# Altium integrated library 434113043826_Altium_WS-TASV_rev20a.IntLib: 82 symbols (part 2 of 2)
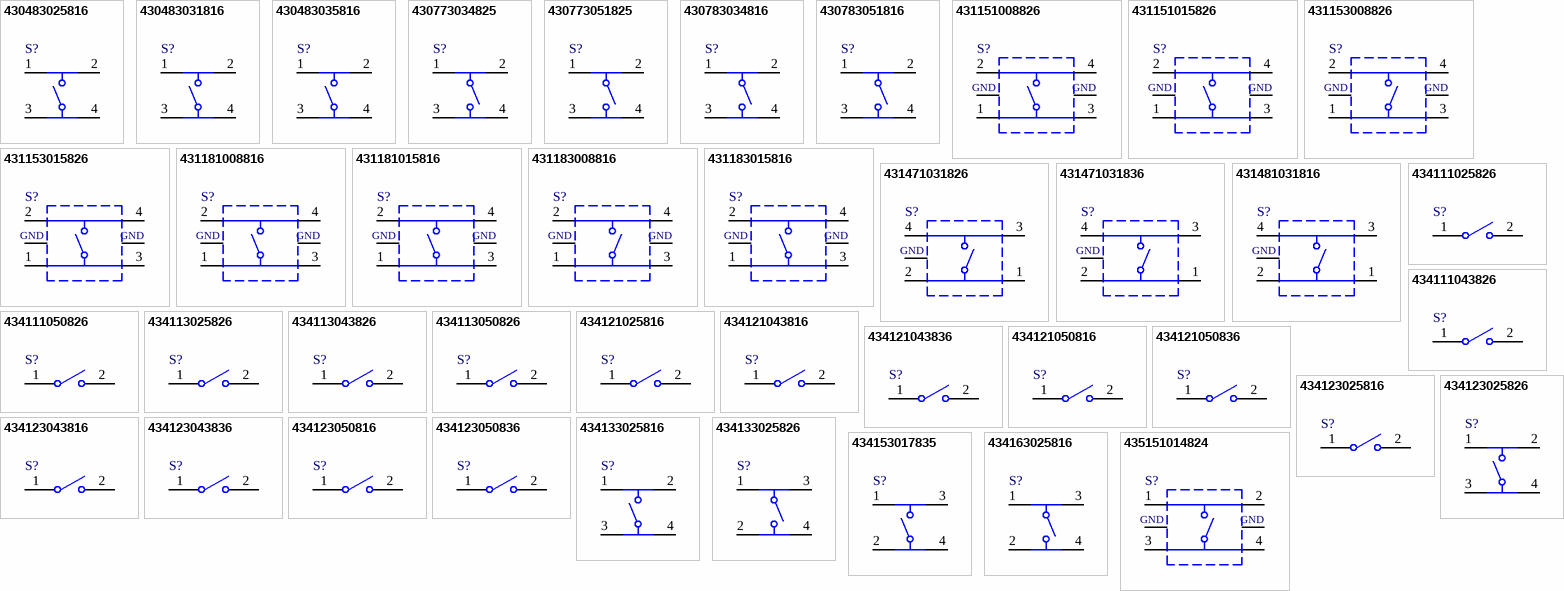
[diagram p3: symbols 430483025816 to 435151014824]

## 434121043816
designator S?
WS-TASV SMT Tact Switch 6x3.5mm, height 4.3mm, 160gf; Part Number: 434121043816; Rated Voltage: 12VDC; Rated Current: 50mA; Washable: No; ComponentLink1Description: Manufacturer; ComponentLink1URL: http://www.we-online.de; ComponentLink2Description: Datasheet; ComponentLink2URL: https://katalog.we-online.com/em/datasheet/434121043816.pdf; Operating Temperature: -40 to +85degC; Published Date: September 2019; Contact Material: Stainless Steel; Height: 4.3mm; Mounting Technology: SMT; Contact Plating: Silver; Operation Force: 160gf; Packaging: Tape and Reel; Terminal Material: Copper Alloy; Publisher: Wurth Elektronik; Terminal Plating: Silver
footprint 434121043816 (SMD Tact Switch, body 6x3.5mm)
pins: 1, 2

## 434121043836
designator S?
WS-TASV SMT Tact Switch 6x3.5mm, height 4.3mm, 360gf; Part Number: 434121043836; Rated Voltage: 12VDC; Rated Current: 50mA; Washable: No; ComponentLink1Description: Manufacturer; ComponentLink1URL: http://www.we-online.de; ComponentLink2Description: Datasheet; ComponentLink2URL: https://katalog.we-online.com/em/datasheet/434121043836.pdf; Operating Temperature: -40 to +85degC; Published Date: September 2019; Contact Material: Stainless Steel; Height: 4.3mm; Mounting Technology: SMT; Contact Plating: Silver; Operation Force: 360gf; Packaging: Tape and Reel; Terminal Material: Copper Alloy; Publisher: Wurth Elektronik; Terminal Plating: Silver
footprint 434121043836 (SMD Tact Switch, body 6x3.5mm)
pins: 1, 2

## 434121050816
designator S?
WS-TASV SMT Tact Switch 6x3.5mm, height 5mm, 160gf; Part Number: 434121050816; Rated Voltage: 12VDC; Rated Current: 50mA; Washable: No; ComponentLink1Description: Manufacturer; ComponentLink1URL: http://www.we-online.de; ComponentLink2Description: Datasheet; ComponentLink2URL: https://katalog.we-online.com/em/datasheet/434121050816.pdf; Operating Temperature: -40 to +85degC; Published Date: September 2019; Contact Material: Stainless Steel; Height: 5mm; Mounting Technology: SMT; Contact Plating: Silver; Operation Force: 160gf; Packaging: Tape and Reel; Terminal Material: Copper Alloy; Publisher: Wurth Elektronik; Terminal Plating: Silver
footprint 434121050816 (SMD Tact Switch, body 6x3.5mm)
pins: 1, 2

## 434121050836
designator S?
WS-TASV SMT Tact Switch 6x3.5mm, height 5mm, 360gf; Part Number: 434121050836; Rated Voltage: 12VDC; Rated Current: 50mA; Washable: No; ComponentLink1Description: Manufacturer; ComponentLink1URL: http://www.we-online.de; ComponentLink2Description: Datasheet; ComponentLink2URL: https://katalog.we-online.com/em/datasheet/434121050836.pdf; Operating Temperature: -40 to +85degC; Published Date: September 2019; Contact Material: Stainless Steel; Height: 5mm; Mounting Technology: SMT; Contact Plating: Silver; Operation Force: 360gf; Packaging: Tape and Reel; Terminal Material: Copper Alloy; Publisher: Wurth Elektronik; Terminal Plating: Silver
footprint 434121050836 (SMD Tact Switch, body 6x3.5mm)
pins: 1, 2

## 434123025816
designator S?
WS-TASV J-Bend SMT Tact Switch 6x3.8mm, height 2.5mm, 160gf; Part Number: 434123025816; Rated Voltage: 12VDC; Rated Current: 50mA; Washable: No; ComponentLink1Description: Manufacturer; ComponentLink1URL: http://www.we-online.de; ComponentLink2Description: Datasheet; ComponentLink2URL: https://katalog.we-online.com/em/datasheet/434123025816.pdf; Operating Temperature: -40 to +85degC; Published Date: September 2019; Contact Material: Stainless Steel; Height: 2.5mm; Mounting Technology: SMT; Contact Plating: Silver; Operation Force: 160gf; Packaging: Tape and Reel; Terminal Material: Copper Alloy; Publisher: Wurth Elektronik; Terminal Plating: Silver
footprint 434123025816 (SMD Tact Switch, body 6x3.8mm)
pins: 1, 2

## 434123025826
designator S?
WS-TASV J-Bend SMT Tact Switch 4.2x3.2mm, height 2.5mm, 260gf; Part Number: 434123025826; Rated Voltage: 16VDC; Rated Current: 50mA; Washable: No; ComponentLink1Description: Manufacturer; ComponentLink1URL: http://www.we-online.de; ComponentLink2Description: Datasheet; ComponentLink2URL: https://katalog.we-online.com/em/datasheet/434123025826.pdf; Operating Temperature: -40 to +85degC; Published Date: September 2019; Contact Material: Stainless Steel; Height: 2.5mm; Mounting Technology: SMT; Contact Plating: Silver; Operation Force: 260gf; Packaging: Tape and Reel; Terminal Material: Copper Alloy; Publisher: Wurth Elektronik; Terminal Plating: Silver
footprint 434123025826 (Tact Switch, SMD, body 4.2x3.2mm)
pins: 1, 2, 3, 4

## 434123043816
designator S?
WS-TASV J-Bend SMT Tact Switch 6x3.5mm, height 4.3mm, 160gf; Part Number: 434123043816; Rated Voltage: 12VDC; Rated Current: 50mA; Washable: No; ComponentLink1Description: Manufacturer; ComponentLink1URL: http://www.we-online.de; ComponentLink2Description: Datasheet; ComponentLink2URL: https://katalog.we-online.com/em/datasheet/434123043816.pdf; Operating Temperature: -40 to +85degC; Published Date: September 2019; Contact Material: Stainless Steel; Height: 4.3mm; Mounting Technology: SMT; Contact Plating: Silver; Operation Force: 160gf; Packaging: Tape and Reel; Terminal Material: Copper Alloy; Publisher: Wurth Elektronik; Terminal Plating: Silver
footprint 434123043816 (SMD Tact Switch, body 6x3.5mm)
pins: 1, 2

## 434123043836
designator S?
WS-TASV J-Bend SMT Tact Switch 6x3.5mm, height 4.3mm, 360gf; Part Number: 434123043836; Rated Voltage: 12VDC; Rated Current: 50mA; Washable: No; ComponentLink1Description: Manufacturer; ComponentLink1URL: http://www.we-online.de; ComponentLink2Description: Datasheet; ComponentLink2URL: https://katalog.we-online.com/em/datasheet/434123043836.pdf; Operating Temperature: -40 to +85degC; Published Date: September 2019; Contact Material: Stainless Steel; Height: 4.3mm; Mounting Technology: SMT; Contact Plating: Silver; Operation Force: 360gf; Packaging: Tape and Reel; Terminal Material: Copper Alloy; Publisher: Wurth Elektronik; Terminal Plating: Silver
footprint 434123043836 (SMD Tact Switch, body 6x3.5mm)
pins: 1, 2

## 434123050816
designator S?
WS-TASV J-Bend SMT Tact Switch 6x3.5mm, height 5mm, 160gf; Part Number: 434123050816; Rated Voltage: 12VDC; Rated Current: 50mA; Washable: No; ComponentLink1Description: Manufacturer; ComponentLink1URL: http://www.we-online.de; ComponentLink2Description: Datasheet; ComponentLink2URL: https://katalog.we-online.com/em/datasheet/434123050816.pdf; Operating Temperature: -40 to +85degC; Published Date: September 2019; Contact Material: Stainless Steel; Height: 5mm; Mounting Technology: SMT; Contact Plating: Silver; Operation Force: 160gf; Packaging: Tape and Reel; Terminal Material: Copper Alloy; Publisher: Wurth Elektronik; Terminal Plating: Silver
footprint 434123050816 (SMD Tact Switch, body 6x3.5mm)
pins: 1, 2

## 434123050836
designator S?
WS-TASV J-Bend SMT Tact Switch 6x3.5mm, height 5mm, 360gf; Part Number: 434123050836; Rated Voltage: 12VDC; Rated Current: 50mA; Washable: No; ComponentLink1Description: Manufacturer; ComponentLink1URL: http://www.we-online.de; ComponentLink2Description: Datasheet; ComponentLink2URL: https://katalog.we-online.com/em/datasheet/434123050836.pdf; Operating Temperature: -40 to +85degC; Published Date: September 2019; Contact Material: Stainless Steel; Height: 5mm; Mounting Technology: SMT; Contact Plating: Silver; Operation Force: 360gf; Packaging: Tape and Reel; Terminal Material: Copper Alloy; Publisher: Wurth Elektronik; Terminal Plating: Silver
footprint 434123050816 (SMD Tact Switch, body 6x3.5mm)
pins: 1, 2

## 434133025816
designator S?
WS-TASV J-Bend SMT Tact Switch 4.2x3.2mm, height 2.5mm, 160gf; Part Number: 434133025816; Rated Voltage: 16VDC; Rated Current: 50mA; Washable: No; ComponentLink1Description: Manufacturer; ComponentLink1URL: http://www.we-online.de; ComponentLink2Description: Datasheet; ComponentLink2URL: https://katalog.we-online.com/em/datasheet/434133025816.pdf; Operating Temperature: -40 to +85degC; Published Date: September 2019; Contact Material: Stainless Steel; Height: 2.5mm; Mounting Technology: SMT; Contact Plating: Silver; Operation Force: 160gf; Packaging: Tape and Reel; Terminal Material: Copper Alloy; Publisher: Wurth Elektronik; Terminal Plating: Silver
footprint 434133025816 (Tact Switch, SMD, body 4.2x3.2mm)
pins: 1, 2, 3, 4

## 434133025826
designator S?
WS-TASV J-Bend SMT Tact Switch 4.7x3.5mm, height 2.5mm, 260gf; Part Number: 434133025826; Rated Voltage: 15VDC; Rated Current: 20mA; Washable: No; ComponentLink1Description: Manufacturer; ComponentLink1URL: http://www.we-online.de; ComponentLink2Description: Datasheet; ComponentLink2URL: https://katalog.we-online.com/em/datasheet/434133025826.pdf; Operating Temperature: -40 to +85degC; Published Date: November 2019; Contact Material: Stainless Steel; Height: 2.5mm; Mounting Technology: SMT; Contact Plating: Silver; Operation Force: 260gf; Packaging: Tape and Reel; Terminal Material: Copper Alloy; Publisher: Wurth Elektronik; Terminal Plating: Silver
footprint 434133025826
pins: 1, 2, 3, 4

## 434153017835
designator S?
WS-TASV J-Bend SMT Tact Switch 3.5x2.9mm, height 1.7mm, 350gf; Part Number: 434153017835; Rated Voltage: 12VDC; Rated Current: 50mA; Washable: No; ComponentLink1Description: Manufacturer; ComponentLink1URL: http://www.we-online.de; ComponentLink2Description: Datasheet; ComponentLink2URL: https://katalog.we-online.com/em/datasheet/434153017835.pdf; Operating Temperature: -40 to +85degC; Published Date: September 2019; Contact Material: Stainless Steel; Height: 1.7mm; Mounting Technology: SMT; Contact Plating: Silver; Operation Force: 350gf; Packaging: Tape and Reel; Terminal Material: Copper Alloy; Publisher: Wurth Elektronik; Terminal Plating: Silver
footprint 434153017835 (Tact Switch, SMD, body 3.5x2.9mm)
pins: 1, 2, 3, 4

## 434163025816
designator S?
WS-TASV J-Bend SMT Tact Switch 4.7x3.5mm, height 2.5mm, 160gf; Part Number: 434163025816; Rated Voltage: 15VDC; Rated Current: 20mA; Washable: No; ComponentLink1Description: Manufacturer; ComponentLink1URL: http://www.we-online.de; ComponentLink2Description: Datasheet; ComponentLink2URL: https://katalog.we-online.com/em/datasheet/434163025816.pdf; Operating Temperature: -40 to +85degC; Published Date: November 2019; Contact Material: Stainless Steel; Height: 2.5mm; Mounting Technology: SMT; Contact Plating: Silver; Operation Force: 160gf; Packaging: Tape and Reel; Terminal Material: Copper Alloy; Publisher: Wurth Elektronik; Terminal Plating: Silver
footprint 434163025816
pins: 1, 2, 3, 4

## 435151014824
designator S?
WS-TASV SMT Tact Switch 3x2.6mm with ground terminal, height 1.4mm, 240gf; Part Number: 435151014824; Rated Voltage: 12VDC; Rated Current: 50mA; Washable: No; ComponentLink1Description: Manufacturer; ComponentLink1URL: http://www.we-online.de; ComponentLink2Description: Datasheet; ComponentLink2URL: https://katalog.we-online.com/em/datasheet/435151014824.pdf; Operating Temperature: -40 to +85degC; Published Date: November 2019; Contact Material: Stainless Steel; Height: 1.4mm; Mounting Technology: SMT; Contact Plating: Silver; Operation Force: 240gf; Packaging: Tape and Reel; Terminal Material: Copper Alloy; Publisher: Wurth Elektronik; Terminal Plating: Silver
footprint 435151014824
pins: 1, 2, 3, 4, 5 GND, 6 GND

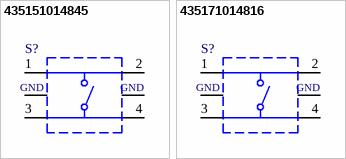
[diagram p2: symbols 435151014845 to 435171014816]

## 435151014845
designator S?
WS-TASV SMT Tact Switch 3x2.6mm with ground terminal, height 1.4mm, 450gf; Part Number: 435151014845; Rated Voltage: 12VDC; Rated Current: 50mA; Washable: No; ComponentLink1Description: Manufacturer; ComponentLink1URL: http://www.we-online.de; ComponentLink2Description: Datasheet; ComponentLink2URL: https://katalog.we-online.com/em/datasheet/435151014845.pdf; Operating Temperature: -40 to +85degC; Published Date: November 2019; Contact Material: Stainless Steel; Height: 1.4mm; Mounting Technology: SMT; Contact Plating: Silver; Operation Force: 450gf; Packaging: Tape and Reel; Terminal Material: Copper Alloy; Publisher: Wurth Elektronik; Terminal Plating: Silver
footprint 435151014845
pins: 1, 2, 3, 4, 5 GND, 6 GND

## 435171014816
designator S?
WS-TASV SMT Tact Switch 3x2.6mm with ground terminal, height 1.4mm, 160gf; Part Number: 435171014816; Rated Voltage: 12VDC; Rated Current: 50mA; Washable: No; ComponentLink1Description: Manufacturer; ComponentLink1URL: http://www.we-online.de; ComponentLink2Description: Datasheet; ComponentLink2URL: https://katalog.we-online.com/em/datasheet/435171014816.pdf; Operating Temperature: -40 to +85degC; Published Date: November 2019; Contact Material: Stainless Steel; Height: 1.4mm; Mounting Technology: SMT; Contact Plating: Silver; Operation Force: 160gf; Packaging: Tape and Reel; Terminal Material: Copper Alloy; Publisher: Wurth Elektronik; Terminal Plating: Silver
footprint 435171014816
pins: 1, 2, 3, 4, 5 GND, 6 GND